# Altium integrated library ERA6APB132V.IntLib: 1 symbol
Pins are listed as number, name and electrical type; pins without a type are passive.

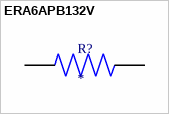
[diagram p0: symbol ERA6APB132V]

## ERA6APB132V
designator R?
RES 1.3K OHM 0.1% 1/8W 0805; MF: Panasonic; MP: ERA-6APB132V; Package: 2012-2 Panasonic; Check_prices: https://www.snapeda.com/parts/ERA-6APB132V/Panasonic/view-part/3719774/?ref=eda; Value: *; SnapEDA_Link: https://www.snapeda.com/parts/ERA-6APB132V/Panasonic/view-part/3719774/?ref=snap; Digi-Key_Part_Number: P1.3KAZCT-ND
footprint RES_ERA6APB132V
pins: 1, 2